# Altium footprint library COLVEN.PcbLib: 24 footprints (part 2 of 2)
Each footprint in its own frame and in the unit in brackets; x right, y up, seen from the top. Pads: shape width x height; smd on the part's side, far side on the other; paste and mask are expansions set on the pad; w line width, h text height; cw(c..) or ccw(c..) is an arc to the next point about the centre after c.
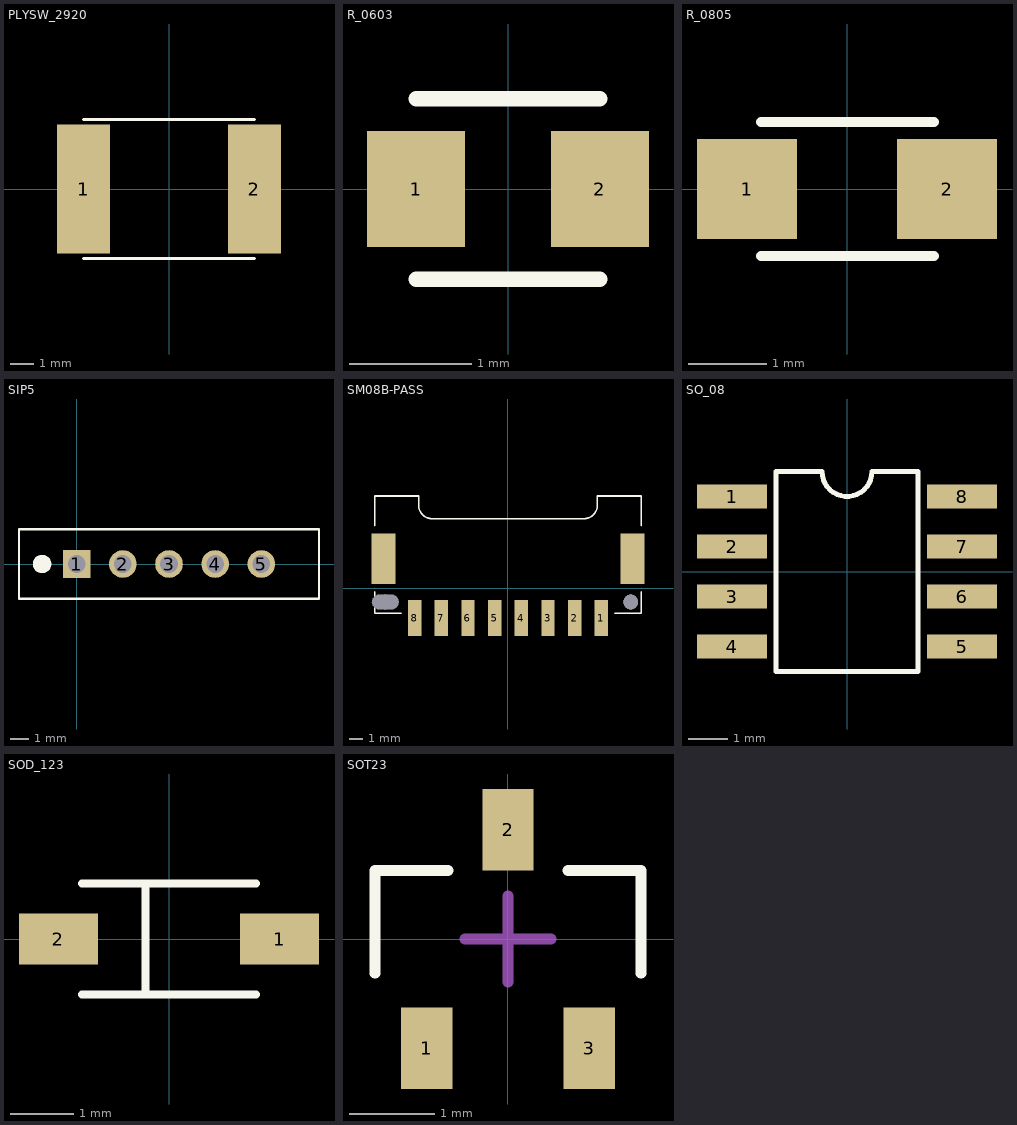
[diagram p1: the footprints below, top view; thin cyan lines are the x and y axes]

## PLYSW_2920 [mil]
pads (2):
  rect 90x220 smd: 1(-145,0) 2(145,0)
Top Overlay:
  lines w5: -145,-118.11 145,-118.11 ; -145,118.11 145,118.11
3D body "User Library-0ZCF0200AF2C.step": height 31.5, standoff 0, extent -157.08,-107.08 157.09,107.09

## R_0603 [mm] "Chip Resistor, 2-Leads, Body 0,6\"x0,3\" - 1,6x0,9mm, IPC High Density"
height 0.55
pads (2):
  rect 0.8x0.95 smd: 1(-0.75,0) 2(0.75,0)
Top Overlay:
  lines w0.127: -0.75,-0.737 0.75,-0.737 ; -0.75,0.737 0.75,0.737
3D body "0603.STEP": height 0.44, standoff -0.03, extent -0.8,-0.406 0.8,0.394

## R_0805 [mm]
pads (2):
  rect 1.27x1.27 smd: 1(-1.27,0) 2(1.27,0)
Top Overlay:
  lines w0.127: -1.095,-0.85 1.105,-0.85 ; -1.095,0.85 1.105,0.85
3D body "0805.STEP": height 0.39, standoff -0.02, extent -1,-0.625 1,0.625

## SIP5 [mil]
pads (5):
  rect 60x60 hole 38: 1(0,0)
  round 60 hole 38: 2(100,0) 3(200,0) 4(300,0) 5(400,0)
Top Overlay:
  circle w20: c-75,0 r10
  lines w5: -125,-75 -125,75 525,75 525,-75 -125,-75
3D body "SIP4.step": height 330, standoff -100, extent -50,-50 350,50
3D body "SIP4.step": height 330, standoff -100, extent 50,-50 450,50

## SM08B-PASS [mm]
pads (12):
  rect 1x2.7 smd: 1(7,-2.225) 2(5,-2.225) 3(3,-2.225) 4(1,-2.225) 5(-1,-2.225) 6(-3,-2.225) 7(-5,-2.225) 8(-7,-2.225)
  rect 1.8x3.8 smd: ""(-9.35,2.225) ""(9.35,2.225)
  round 1.1 hole 1.1 slot 2 at 0 deg: ""(-9.2,-1.025)
  round 1.1 hole 1.1 unplated: ""(9.2,-1.025)
Top Overlay:
  lines w0.127: -10,-0.247 -10,-1.875 -8,-1.875 ; -10,4.697 -10,6.925 -6.7,6.925 -6.7,6.225 ccw(c-5.7,6.225) -5.7,5.225 5.7,5.225 ccw(c5.7,6.225) 6.7,6.225 6.7,6.925 10,6.925 10,4.697 ; 8,-1.875 10,-1.875 10,-0.247
3D body "SM08B-PASS-TB.STEP": height 5.8, standoff 0, extent -10,-3.061 10,6.939

## SO_08 [mil]
pads (8):
  rect 70x24 smd: 1(-115,75) 2(-115,25) 3(-115,-25) 4(-115,-75) 5(115,-75) 6(115,-25) 7(115,25) 8(115,75)
Top Overlay:
  lines w5: -70.87,-100 -70.87,100 -25,100 ccw(c0,100) 25,100 70.87,100 70.87,-100 -70.87,-100
  text "." at -174.81,75.19 h15
3D body "SO8.STEP": height 68.9, standoff 0.01, extent -118.33,-98.42 118.34,98.43

## SOD_123 [mm]
pads (2):
  rect 1.25x0.8 smd: 1(1.75,0) 2(-1.75,0)
Top Overlay:
  lines w0.127: -1.375,-0.875 1.375,-0.875 ; -1.375,0.875 1.375,0.875 ; -0.375,-0.875 -0.375,0.875
3D body "CircuitWorks-SOD123.step": height 1.27, standoff 0, extent -1.85,-0.8 1.85,0.8

## SOT23 [mm]
pads (3):
  rect 0.6x0.95 smd: 1(-0.95,-1.275) 2(0,1.275) 3(0.95,-1.275)
Top Overlay:
  lines w0.127: -1.55,-0.4 -1.55,0.798 -0.7,0.798 ; 0.7,0.798 1.55,0.798 1.55,-0.4
Mechanical 15:
  lines w0.127: -0.5,0 0.5,0 ; 0,-0.5 0,0.5
3D body "SOT23_3.step": height 1, standoff -0.1, extent -1.483,-1.529 1.517,1.609